# EAGLE library part TFDU4100 (library ds_ic_peripherals)
Serial Infrared Transceiver SIR, 115.2 kbit/s, 2.7 V to 5.5 V Operation
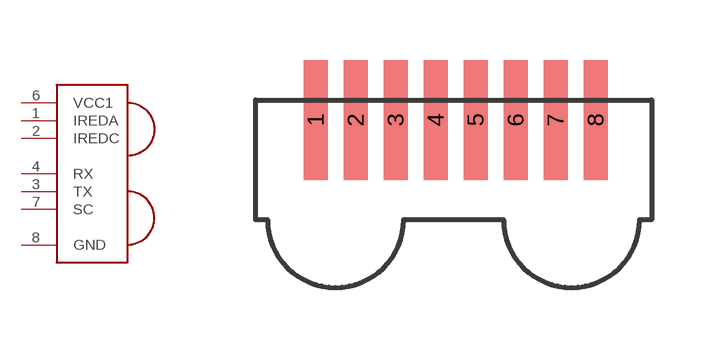
[diagram p84: symbol with the pads of TFDU4100; footprint TFDU4100]

Designator prefix IR

## TFDU4100  [TFDU4100]
1  IREDA
2  IREDC
3  TX
4  RX
6  VCC1
7  SC
8  GND

## Footprint TFDU4100 (pad centres in mm)
smd 0.6 x 3: 1 -3.4,1.5; 2 -2.4,1.5; 3 -1.4,1.5; 4 -0.4,1.5; 5 0.6,1.5; 6 1.6,1.5; 7 2.6,1.5; 8 3.6,1.5